# EAGLE library part 687312124422 (library Eagle_FPC_CONNECTOR_AND_FFC_CAB (rev18c))
WR-FPC-0.50mm SMT ZIF Vertical Type A, 12pins T&R with Cap Code : Con_FPC_ZIF_0.50_687312124422_687312124422 <http://katalog.we-online.de/media/images/eican/Con_FPC_ZIF_0.50_6873xx124422_pf2.jpg> Details see: http://katalog.we-online.de/en/em/687_3xx_124_422 Created 2014-07-09, Karrer Zheng 2014 (C) Würth Elektronik
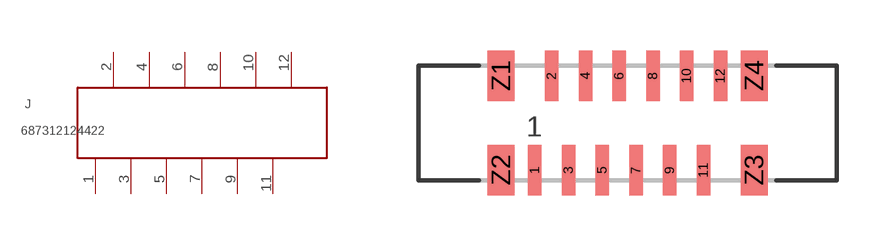
[diagram p76: symbol with the pads of 687312124422; footprint 687312124422]

Designator prefix J

## 687312124422  [687312124422]
1  1  pas
2  2  pas
3  3  pas
4  4  pas
5  5  pas
6  6  pas
7  7  pas
8  8  pas
9  9  pas
10  10  pas
11  11  pas
12  12  pas

## Footprint 687312124422 (pad centres in mm)
WR-FPC-0.50mm SMT ZIF Vertical Type A,pins 12
smd 0.4 x 1.5: 1 -2.75,-1.4; 2 -2.25,1.4; 3 -1.75,-1.4; 4 -1.25,1.4; 5 -0.75,-1.4; 6 -0.25,1.4; 7 0.25,-1.4; 8 0.75,1.4; 9 1.25,-1.4; 10 1.75,1.4; 11 2.25,-1.4; 12 2.75,1.4
smd 0.8 x 1.5: Z1 -3.75,1.4; Z2 -3.75,-1.4; Z3 3.75,-1.4; Z4 3.75,1.4